# Altium integrated library Xtal.IntLib: 302 symbols (part 5 of 5)
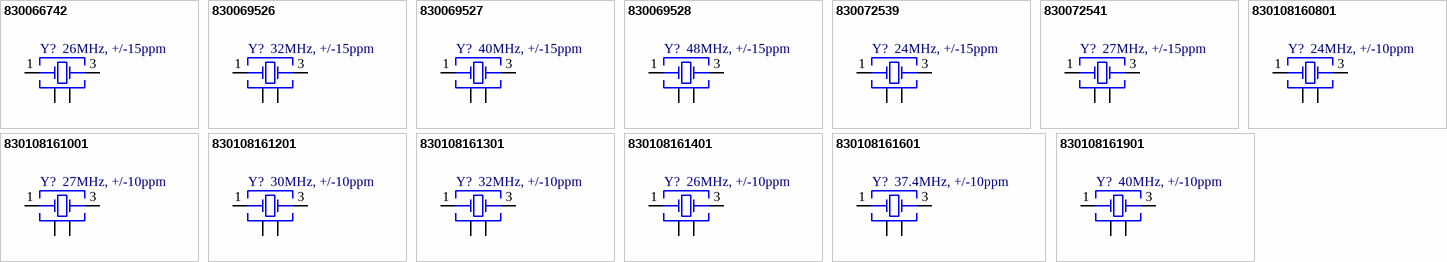
[diagram p22: symbols 830066742 to 830108161901]

## 830108161001
designator Y?, comment 27MHz, +/-10ppm
WE-XTAL Quartz Crystal, SMT, IQXC-26, 27MHz, +/-10ppm; Part Number: 830108161001; Frequency Stability: +/-20ppm; Load Capacitance: 8pF; ComponentLink1Description: Manufacturer; ComponentLink1URL: http://www.we-online.de; ComponentLink2Description: Datasheet; ComponentLink2URL: https://katalog.we-online.com/pbs/datasheet/830108161001.pdf; Operating Temperature: -40 to +85degC; Packaging: Tape and Reel; Published Date: November 2019; Size: IQXC-26; Frequency: 27MHz; Frequency Tolerance: +/-10ppm; Mounting Technology: SMT; Publisher: Wurth Elektronik
footprint WE-XTAL_IQXC-26
pins: 1 Crystal, 2 GND & Lid, 3 Crystal, 4 GND & Lid

## 830108161201
designator Y?, comment 30MHz, +/-10ppm
WE-XTAL Quartz Crystal, SMT, IQXC-26, 30MHz, +/-10ppm; Part Number: 830108161201; Frequency Stability: +/-20ppm; Load Capacitance: 8pF; ComponentLink1Description: Manufacturer; ComponentLink1URL: http://www.we-online.de; ComponentLink2Description: Datasheet; ComponentLink2URL: https://katalog.we-online.com/pbs/datasheet/830108161201.pdf; Operating Temperature: -40 to +85degC; Packaging: Tape and Reel; Published Date: November 2019; Size: IQXC-26; Frequency: 30MHz; Frequency Tolerance: +/-10ppm; Mounting Technology: SMT; Publisher: Wurth Elektronik
footprint WE-XTAL_IQXC-26
pins: 1 Crystal, 2 GND & Lid, 3 Crystal, 4 GND & Lid

## 830108161301
designator Y?, comment 32MHz, +/-10ppm
WE-XTAL Quartz Crystal, SMT, IQXC-26, 32MHz, +/-10ppm; Part Number: 830108161301; Frequency Stability: +/-20ppm; Load Capacitance: 8pF; ComponentLink1Description: Manufacturer; ComponentLink1URL: http://www.we-online.de; ComponentLink2Description: Datasheet; ComponentLink2URL: https://katalog.we-online.com/pbs/datasheet/830108161301.pdf; Operating Temperature: -40 to +85degC; Packaging: Tape and Reel; Published Date: November 2019; Size: IQXC-26; Frequency: 32MHz; Frequency Tolerance: +/-10ppm; Mounting Technology: SMT; Publisher: Wurth Elektronik
footprint WE-XTAL_IQXC-26
pins: 1 Crystal, 2 GND & Lid, 3 Crystal, 4 GND & Lid

## 830108161401
designator Y?, comment 26MHz, +/-10ppm
WE-XTAL Quartz Crystal, SMT, IQXC-26, 26MHz, +/-10ppm; Part Number: 830108161401; Frequency Stability: +/-20ppm; Load Capacitance: 8pF; ComponentLink1Description: Manufacturer; ComponentLink1URL: http://www.we-online.de; ComponentLink2Description: Datasheet; ComponentLink2URL: https://katalog.we-online.com/pbs/datasheet/830108161401.pdf; Operating Temperature: -40 to +85degC; Packaging: Tape and Reel; Published Date: November 2019; Size: IQXC-26; Frequency: 26MHz; Frequency Tolerance: +/-10ppm; Mounting Technology: SMT; Publisher: Wurth Elektronik
footprint WE-XTAL_IQXC-26
pins: 1 Crystal, 2 GND & Lid, 3 Crystal, 4 GND & Lid

## 830108161601
designator Y?, comment 37.4MHz, +/-10ppm
WE-XTAL Quartz Crystal, SMT, IQXC-26, 37.4MHz, +/-10ppm; Part Number: 830108161601; Frequency Stability: +/-20ppm; Load Capacitance: 8pF; ComponentLink1Description: Manufacturer; ComponentLink1URL: http://www.we-online.de; ComponentLink2Description: Datasheet; ComponentLink2URL: https://katalog.we-online.com/pbs/datasheet/830108161601.pdf; Operating Temperature: -40 to +85degC; Packaging: Tape and Reel; Published Date: November 2019; Size: IQXC-26; Frequency: 37.4MHz; Frequency Tolerance: +/-10ppm; Mounting Technology: SMT; Publisher: Wurth Elektronik
footprint WE-XTAL_IQXC-26
pins: 1 Crystal, 2 GND & Lid, 3 Crystal, 4 GND & Lid

## 830108161901
designator Y?, comment 40MHz, +/-10ppm
WE-XTAL Quartz Crystal, SMT, IQXC-26, 40MHz, +/-10ppm; Part Number: 830108161901; Frequency Stability: +/-20ppm; Load Capacitance: 8pF; ComponentLink1Description: Manufacturer; ComponentLink1URL: http://www.we-online.de; ComponentLink2Description: Datasheet; ComponentLink2URL: https://katalog.we-online.com/pbs/datasheet/830108161901.pdf; Operating Temperature: -40 to +85degC; Packaging: Tape and Reel; Published Date: November 2019; Size: IQXC-26; Frequency: 40MHz; Frequency Tolerance: +/-10ppm; Mounting Technology: SMT; Publisher: Wurth Elektronik
footprint WE-XTAL_IQXC-26
pins: 1 Crystal, 2 GND & Lid, 3 Crystal, 4 GND & Lid